# Altium integrated library LM74610QDGKRQ1.IntLib: 1 symbol
Pins are listed as number, name and electrical type; pins without a type are passive.

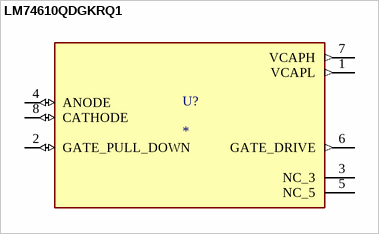
[diagram p0: symbol LM74610QDGKRQ1]

## LM74610QDGKRQ1
designator U?
0.48-V to 42-V, zero IQ automotive ideal diode controller; MF: Texas Instruments; MP: LM74610QDGKRQ1; SnapEDA_Link: https://www.snapeda.com/parts/LM74610QDGKRQ1/Texas+Instruments/view-part/?ref=snap; Package: VSSOP-8 Texas Instruments; Value: *; Check_prices: https://www.snapeda.com/parts/LM74610QDGKRQ1/Texas+Instruments/view-part/?ref=eda
footprint SOP65P490X110-8N
pins: 1 VCAPL (out), 2 GATE_PULL_DOWN (io), 3 NC_3, 4 ANODE (io), 5 NC_5, 6 GATE_DRIVE (out), 7 VCAPH (out), 8 CATHODE (io)